# EAGLE library part FLAT-FLEX-CONNECTOR-VERT-29POS (library FlashPCB_Connectors)
FLAT-FLEX-CONNECTOR-VERT-29POS - Flat Flex Connector 29 position Vertical Technical Specifications: Number of Positions: 29 Contact: One Side Mount: Vertical
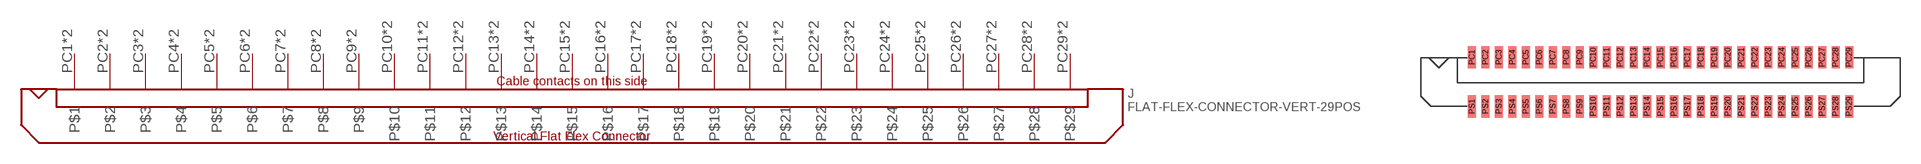
[diagram p134: symbol with the pads of FLAT-FLEX-CONNECTOR-MOLEX-52610-VERT-29POS; footprint FLAT-FLEX-CONNECTOR-MOLEX-52610-VERT-29POS]

Designator prefix J

## FLAT-FLEX-CONNECTOR-VERT-29POS1MM-PITCH  [FLAT-FLEX-CONNECTOR-MOLEX-52610-VERT-29POS]
PC1  P$1
PC2  P$2
PC3  P$3
PC4  P$4
PC5  P$5
PC6  P$6
PC7  P$7
PC8  P$8
PC9  P$9
PC10  P$10
PC11  P$11
PC12  P$12
PC13  P$13
PC14  P$14
PC15  P$15
PC16  P$16
PC17  P$17
PC18  P$18
PC19  P$19
PC20  P$20
PC21  P$21
PC22  P$22
PC23  P$23
PC24  P$24
PC25  P$25
PC26  P$26
PC27  P$27
PC28  P$28
PC29  P$29
PS1  P$1
PS2  P$2
PS3  P$3
PS4  P$4
PS5  P$5
PS6  P$6
PS7  P$7
PS8  P$8
PS9  P$9
PS10  P$10
PS11  P$11
PS12  P$12
PS13  P$13
PS14  P$14
PS15  P$15
PS16  P$16
PS17  P$17
PS18  P$18
PS19  P$19
PS20  P$20
PS21  P$21
PS22  P$22
PS23  P$23
PS24  P$24
PS25  P$25
PS26  P$26
PS27  P$27
PS28  P$28
PS29  P$29

## Footprint FLAT-FLEX-CONNECTOR-MOLEX-52610-VERT-29POS (pad centres in mm)
smd 0.6 x 1.65: PC1 -14,1.825; PC2 -13,1.825; PC3 -12,1.825; PC4 -11,1.825; PC5 -10,1.825; PC6 -9,1.825; PC7 -8,1.825; PC8 -7,1.825; PC9 -6,1.825; PC10 -5,1.825; PC11 -4,1.825; PC12 -3,1.825; PC13 -2,1.825; PC14 -1,1.825; PC15 0,1.825; PC16 1,1.825; PC17 2,1.825; PC18 3,1.825; PC19 4,1.825; PC20 5,1.825; PC21 6,1.825; PC22 7,1.825; PC23 8,1.825; PC24 9,1.825; PC25 10,1.825; PC26 11,1.825; PC27 12,1.825; PC28 13,1.825; PC29 14,1.825; PS1 -14,-1.825; PS2 -13,-1.825; PS3 -12,-1.825; PS4 -11,-1.825; PS5 -10,-1.825; PS6 -9,-1.825; PS7 -8,-1.825; PS8 -7,-1.825; PS9 -6,-1.825; PS10 -5,-1.825; PS11 -4,-1.825; PS12 -3,-1.825; PS13 -2,-1.825; PS14 -1,-1.825; PS15 0,-1.825; PS16 1,-1.825; PS17 2,-1.825; PS18 3,-1.825; PS19 4,-1.825; PS20 5,-1.825; PS21 6,-1.825; PS22 7,-1.825; PS23 8,-1.825; PS24 9,-1.825; PS25 10,-1.825; PS26 11,-1.825; PS27 12,-1.825; PS28 13,-1.825; PS29 14,-1.825